# Altium schematic symbol library FC_v2.0_Schlib.SchLib: 45 symbols (part 2 of 2)
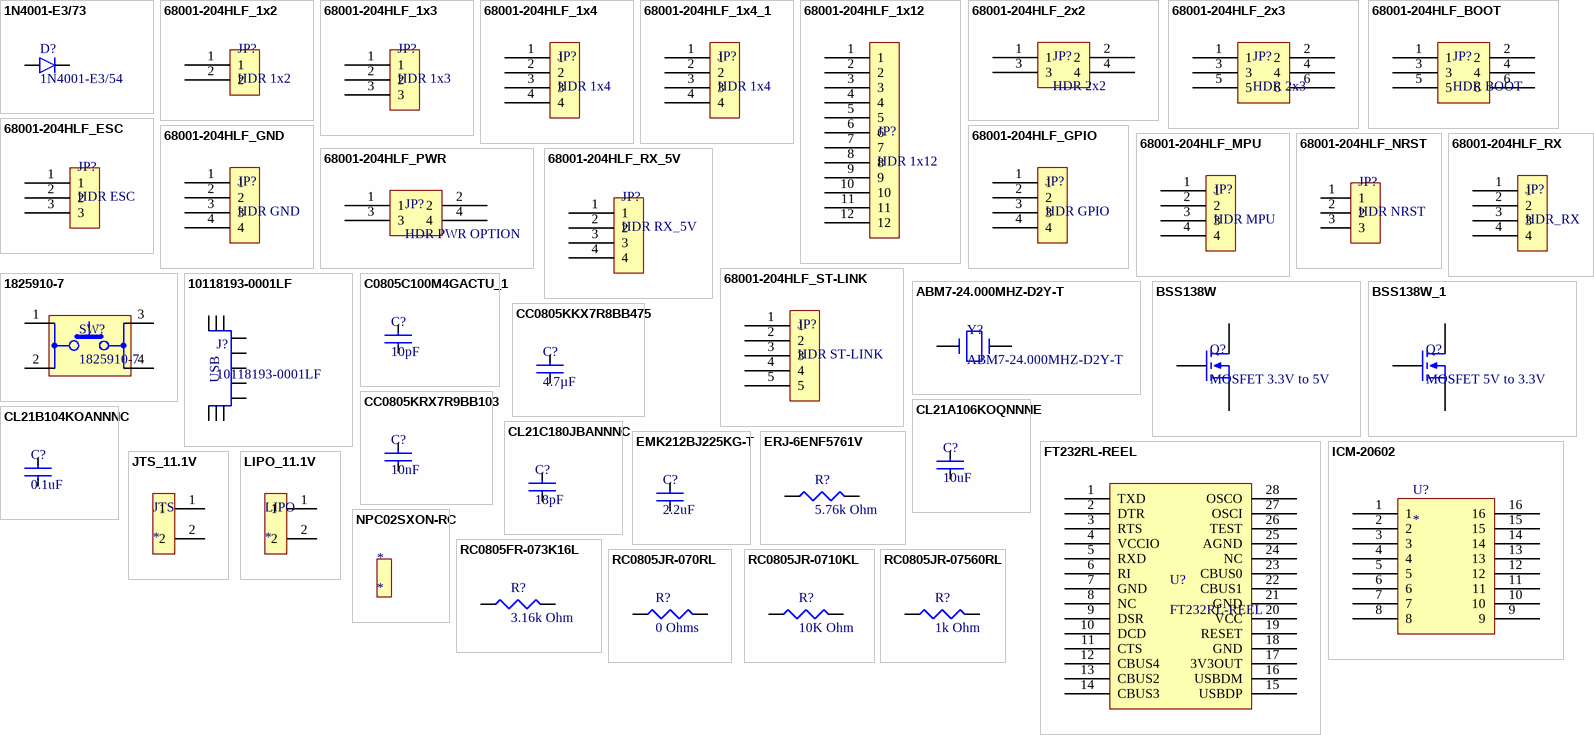
[diagram p2: symbols 1N4001-E3/73 to RC0805JR-07560RL]

## RC0805JR-07560RL
designator R?, comment 1k Ohm
RES SMD 560 OHM 5% 1/8W 0805; Manufacturer: Yageo; Manufacturer Part Number: RC0805JR-07560RL; Resistance: 560 Ohms; Power Rating: 125 mW (1/8 W); Voltage Rating: 150 V; Temperature Coefficient: 100 PPM / C; Supplier 1: Digi-Key; Stock 1: 266046; Pricing 1: 1=0.1, 10=0.019, 100=0.0076, 1000=0.0034, 2500=0.003 (USD); Termination Style: SMD/SMT; Product: Thick Film Resistors General Purpose; Tolerance: 5 %; Case Code - in: 0805; Case Code - mm: 2012; Series: RC; Operating Temperature Range: - 55 C to + 155 C; Packaging: Reel; ComponentLink1URL: https://datasheet.ciiva.com/12656/rc0805-12656805.pdf; ComponentLink1Description: https://datasheet.ciiva.com/12656/rc0805-12656805.pdf; ComponentLink2URL: https://datasheet.ciiva.com/7941/442941-7941977.pdf; ComponentLink2Description: https://datasheet.ciiva.com/7941/442941-7941977.pdf; ComponentLink3URL: https://datasheet.ciiva.com/2491/pyu-r-int-thick-7-2491354.pdf; ComponentLink3Description: https://datasheet.ciiva.com/2491/pyu-r-int-thick-7-2491354.pdf; ComponentLink4URL: https://datasheet.ciiva.com/7941/442941-7941978.pdf; ComponentLink4Description: https://datasheet.ciiva.com/7941/442941-7941978.pdf; ComponentLink5URL: https://datasheet.ciiva.com/2491/pyu-r-int-thick-7-2491355.pdf; ComponentLink5Description: https://datasheet.ciiva.com/2491/pyu-r-int-thick-7-2491355.pdf; ComponentLink6URL: https://datasheet.ciiva.com/2491/pyu-r-int-thick-7-2491356.pdf; ComponentLink6Description: https://datasheet.ciiva.com/2491/pyu-r-int-thick-7-2491356.pdf; ComponentLink7URL: https://datasheet.ciiva.com/17044/rc0805-17044479.pdf; ComponentLink7Description: https://datasheet.ciiva.com/17044/rc0805-17044479.pdf; Supplier Part Number 1: 311-560ARCT-ND
footprint R0805
pins: 1, 2

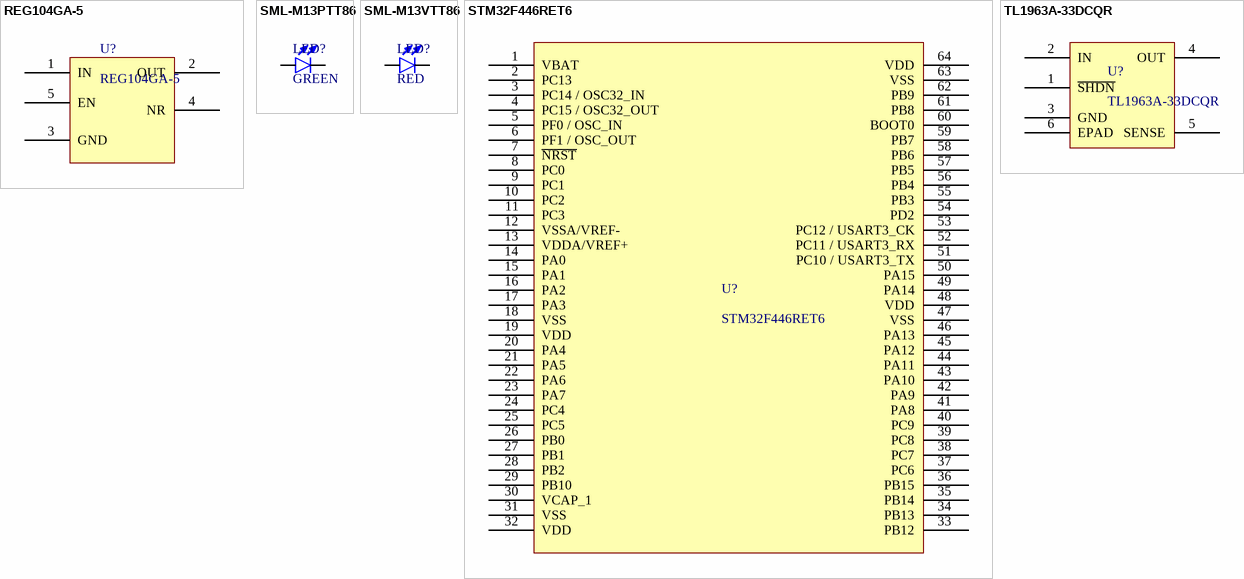
[diagram p1: symbols REG104GA-5 to TL1963A-33DCQR]

## REG104GA-5
designator U?
IC REG LDO 5V 1A SOT223-6; Manufacturer: Texas Instruments; Regulator Topology: Positive Fixed; Voltage - Input: Up to 15V; Voltage - Dropout (Typical): 0.32V @ 1A; Number of Regulators: 1; Current - Output: 1A (Max); Current - Limit (Min): 1.2A; Dynamic Catalog: 3.4V to 5V; For Use With: 296-20842-ND / - DEMO MODULE FOR SOT-223 LDO'S; Supplier 1: Digi-Key; Manufacturer Part Number: REG104GA-5; Stock 1: 198; Pricing 1: 1=6.52, 10=5.855, 100=4.797, 500=4.0836, 1000=3.444 (USD); Standard Package: 78; Category: Integrated Circuits (ICs); Family: PMIC - Voltage Regulators - Linear (LDO); Series: -; Voltage - Output: 5V; Operating Temperature: -40°C ~ 85°C; Mounting Type: Surface Mount; Package / Case: SOT-223-6; Supplier Device Package: SOT-223-6; Packaging: Tube; ComponentLink1URL: https://datasheet.ciiva.com/7271/1747928-7271312.pdf; ComponentLink1Description: https://datasheet.ciiva.com/7271/1747928-7271312.pdf; ComponentLink2URL: https://datasheet.ciiva.com/3224/reg104-a-3224167.pdf; ComponentLink2Description: https://datasheet.ciiva.com/3224/reg104-a-3224167.pdf; ComponentLink3URL: https://datasheet.ciiva.com/26171/sbvs025g-26171819.pdf; ComponentLink3Description: https://datasheet.ciiva.com/26171/sbvs025g-26171819.pdf; ComponentLink4URL: https://datasheet.ciiva.com/26907/reg104ga-5-26907603.pdf; ComponentLink4Description: https://datasheet.ciiva.com/26907/reg104ga-5-26907603.pdf; Supplier Part Number 1: REG104GA-5-ND
footprint DCQ
pins: 1 IN, 2 OUT, 3 GND, 4 NR, 5 EN

## SML-M13PTT86
designator LED?, comment GREEN
LED GREEN CLEAR 0805 SMD; Manufacturer: Rohm; Manufacturer Part Number: SML-M13PTT86; Brand: ROHM Semiconductor; LED Size: 2 mm x 1.25 mm x 0.8 mm; Forward Current: 20 mA; Forward Voltage: 2.2 V; Luminous Intensity: 16 mcd; Wavelength/Color Temperature: 560 nm; Supplier 1: Digi-Key; Stock 1: 6223; Pricing 1: 1=0.5, 10=0.394, 25=0.328, 100=0.2827, 250=0.2524, 500=0.2171, 1000=0.1676 (USD); Factory Pack Quantity: 3000; Illumination Color: Green; Product Category: Standard LEDs - SMD; RoHS: Details; Package / Case: 0805 (2012 metric); Packaging: Reel; Maximum Operating Temperature: + 85 C; Minimum Operating Temperature: - 40 C; ComponentLink1URL: https://datasheet.ciiva.com/2111/sml-m1-2111123.pdf; ComponentLink1Description: https://datasheet.ciiva.com/2111/sml-m1-2111123.pdf; ComponentLink2URL: https://datasheet.ciiva.com/2111/sml-m1-2111124.pdf; ComponentLink2Description: https://datasheet.ciiva.com/2111/sml-m1-2111124.pdf; ComponentLink3URL: https://datasheet.ciiva.com/2111/sml-m1-2111125.pdf; ComponentLink3Description: https://datasheet.ciiva.com/2111/sml-m1-2111125.pdf; Supplier Part Number 1: 846-1029-1-ND
footprint LED
pins: 1, 2

## SML-M13VTT86
designator LED?, comment RED
LED RED CLEAR 0805 SMD; Manufacturer: Rohm; Manufacturer Part Number: SML-M13VTT86; Brand: ROHM Semiconductor; LED Size: 2 mm x 1.25 mm x 0.8 mm; Forward Current: 20 mA; Forward Voltage: 2 V; Luminous Intensity: 75 mcd; Wavelength/Color Temperature: 630 nm; Supplier 1: Digi-Key; Stock 1: 9242; Pricing 1: 1=0.66, 10=0.475, 25=0.388, 100=0.3105, 250=0.262, 500=0.2231, 1000=0.1746 (USD); Factory Pack Quantity: 3000; Illumination Color: Red; Product Category: Standard LEDs - SMD; RoHS: Details; Package / Case: 0805 (2012 metric); Packaging: Reel; Maximum Operating Temperature: + 85 C; Minimum Operating Temperature: - 40 C; ComponentLink1URL: https://datasheet.ciiva.com/2111/sml-m1-2111141.pdf; ComponentLink1Description: https://datasheet.ciiva.com/2111/sml-m1-2111141.pdf; ComponentLink2URL: https://datasheet.ciiva.com/2111/sml-m1-2111142.pdf; ComponentLink2Description: https://datasheet.ciiva.com/2111/sml-m1-2111142.pdf; ComponentLink3URL: https://datasheet.ciiva.com/2111/sml-m1-2111143.pdf; ComponentLink3Description: https://datasheet.ciiva.com/2111/sml-m1-2111143.pdf; Supplier Part Number 1: 846-1031-1-ND
footprint LED
pins: 1, 2

## STM32F446RET6
designator U?
STMICROELECTRONICS         STM32F446RET6             32 Bit Microcontroller, High Performance, ARM Cortex-M4, 180 MHz, 512 KB, 128 KB, 64 Pins, LQFP; Device Core: ARM Cortex M4; Maximum Operating Supply Voltage: 3.6 V; Data Bus Width: 32 Bit; RAM Size: 132 KB; Interface Type: CAN/I2C/I2S/SPI/UART/USART/USB; Screening Level: Extended Industrial; Instruction Set Architecture: RISC; Program Memory Type: Flash; Minimum Operating Supply Voltage: 1.7 V; Number of Timers: 14; Operating Supply Voltage: 2.5|3.3 V; On-Chip ADC: 2(16-chx12-bit); Watchdog: 2; On-Chip DAC: 2-chx12bit; Maximum Power Dissipation: 345 mW; Maximum Speed: 180 MHz; Program Memory Size: 512 KB; Number of Programmable I/Os: 50; Special Features: CAN Controller; Supplier 1: Digi-Key; Manufacturer: STMicroelectronics; Manufacturer Part Number: STM32F446RET6; Stock 1: 1212; Pricing 1: 1=8.59, 10=7.762, 100=6.4258, 500=5.5955, 1000=4.8735 (USD); Mounting: Surface Mount; Operating Temperature: -40 to 105 C; ComponentLink1URL: http://www.st.com/st-web-ui/static/active/en/resource/technical/document/datasheet/DM00141306.pdf; ComponentLink1Description: http://www.st.com/st-web-ui/static/active/en/resource/technical/document/datasheet/DM00141306.pdf; ComponentLink2URL: http://www.st.com/content/ccc/resource/technical/document/datasheet/65/cb/75/50/53/d6/48/24/DM00141306.pdf/files/DM00141306.pdf/jcr:content/translations/en.DM00141306.pdf; ComponentLink2Description: http://www.st.com/content/ccc/resource/technical/document/datasheet/65/cb/75/50/53/d6/48/24/DM00141306.pdf/files/DM00141306.pdf/jcr:content/translations/en.DM00141306.pdf; ComponentLink3URL: http://www.farnell.com/datasheets/1997805.pdf; ComponentLink3Description: http://www.farnell.com/datasheets/1997805.pdf; Supplier Part Number 1: 497-15376-ND
footprint STM32F446xC
pins: 1 VBAT "2.4V - 3.6V", 2 PC13 "PC13, PC14 and PC15 are supplied through the power switch. Since the switch only sinks a limited amount of current  (3 mA), the use of GPIOs PC13 to PC15 in output mode is limited:  - The speed should not exceed 2 MHz with a maximum load of 30 pF.  - These GPIOs must not be used as current sources (e.g. to drive an LED)", 3 PC14 / OSC32_IN "PC13, PC14 and PC15 are supplied through the power switch. Since the switch only sinks a limited amount of current  (3 mA), the use of GPIOs PC13 to PC15 in output mode is limited:  - The speed should not exceed 2 MHz with a maximum load of 30 pF.  - These GPIOs must not be used as current sources (e.g. to drive an LED)", 4 PC15 / OSC32_OUT "PC13, PC14 and PC15 are supplied through the power switch. Since the switch only sinks a limited amount of current  (3 mA), the use of GPIOs PC13 to PC15 in output mode is limited:  - The speed should not exceed 2 MHz with a maximum load of 30 pF.  - These GPIOs must not be used as current sources (e.g. to drive an LED)", 5 PF0 / OSC_IN, 6 PF1 / OSC_OUT, 7 ~{NRST}, 8 PC0, 9 PC1, 10 PC2, 11 PC3, 12 VSSA/VREF-, 13 VDDA/VREF+, 14 PA0, 15 PA1, 16 PA2, 17 PA3, 18 VSS, 19 VDD, 20 PA4, 21 PA5, 22 PA6, 23 PA7, 24 PC4 "2.4V - 3.6V", 25 PC5, 26 PB0, 27 PB1, 28 PB2, 29 PB10, 30 VCAP_1, 31 VSS, 32 VDD, 33 PB12, 34 PB13, 35 PB14, 36 PB15, 37 PC6, 38 PC7, 39 PC8, 40 PC9, 41 PA8, 42 PA9, 43 PA10, 44 PA11, 45 PA12, 46 PA13, 47 VSS, 48 VDD "2.4V - 3.6V", 49 PA14, 50 PA15, 51 PC10 / USART3_TX, 52 PC11 / USART3_RX, 53 PC12 / USART3_CK, 54 PD2, 55 PB3, 56 PB4, 57 PB5, 58 PB6, 59 PB7, 60 BOOT0, 61 PB8, 62 PB9, 63 VSS, 64 VDD

## TL1963A-33DCQR
designator U?
IC REG LDO 3.3V 1.5A SOT223-6; Manufacturer: Texas Instruments; Regulator Output Type: Fixed; Polarity Type: Positive; Number of Outputs: 1; Input Voltage (Min): 1.9V; Input Voltage: 20V; Load Regulation: 20mV; Line Regulation: 10mV; Supplier 1: Digi-Key; Manufacturer Part Number: TL1963A-33DCQR; Stock 1: 1510; Pricing 1: 1=2.95, 10=2.648, 100=2.1692, 500=1.8466, 1000=1.5574 (USD); Voltage Regulator Type: LDO; Topology: LDO; Output Voltage: 3.3V; Package Type: SOT-223; Packaging: Tape and Reel; Output Current: 1.5A; Operating Temp Range: -40C to 125C; Operating Temperature Classification: Automotive; Pin Count: 5 +Tab; Mounting: Surface Mount; ComponentLink1URL: https://datasheet.ciiva.com/2046/tl1963a-2046161.pdf; ComponentLink1Description: https://datasheet.ciiva.com/2046/tl1963a-2046161.pdf; ComponentLink2URL: https://datasheet.ciiva.com/2046/tl1963a-2046162.pdf; ComponentLink2Description: https://datasheet.ciiva.com/2046/tl1963a-2046162.pdf; ComponentLink3URL: https://datasheet.ciiva.com/2046/tl1963a-2046163.pdf; ComponentLink3Description: https://datasheet.ciiva.com/2046/tl1963a-2046163.pdf; ComponentLink4URL: https://datasheet.ciiva.com/26176/tl1963a-25-26176569.pdf; ComponentLink4Description: https://datasheet.ciiva.com/26176/tl1963a-25-26176569.pdf; Supplier Part Number 1: 296-24534-1-ND
footprint DCQ
pins: 1 ~{SHDN}, 2 IN, 3 GND, 4 OUT, 5 SENSE, 6 EPAD